# EAGLE library part VSSOP-8_DEVICE (library VSSOP8)
Dual bidirectional I2C-bus and SMBus voltage-level translator
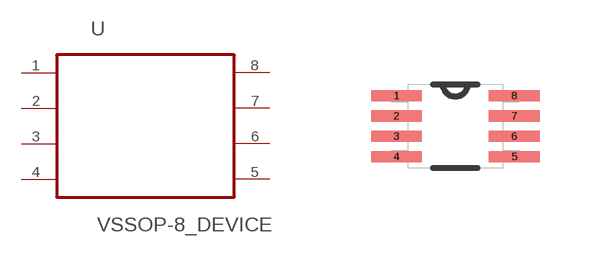
[diagram p0: symbol with the pads of VSSOP-8; footprint VSSOP-8]

Designator prefix U

## VSSOP-8_DEVICE (MPN: PCA9306DC,125; OC_FARNELL: -; OC_NEWARK: 70R6429; PACKAGE: VSSOP-8; SUPPLIER: NXP)  [VSSOP-8]
1  1
2  2
3  3
4  4
5  5
6  6
7  7
8  8

## Footprint VSSOP-8 (pad centres in mm)
smd 1.27 x 0.279: 1 -1.473,0.762; 2 -1.473,0.254; 3 -1.473,-0.254; 4 -1.473,-0.762; 5 1.473,-0.762; 6 1.473,-0.254; 7 1.473,0.254; 8 1.473,0.762